# EAGLE library part AD9883 (library ad9883)
AD9883 - VGA to LCD ccontroller
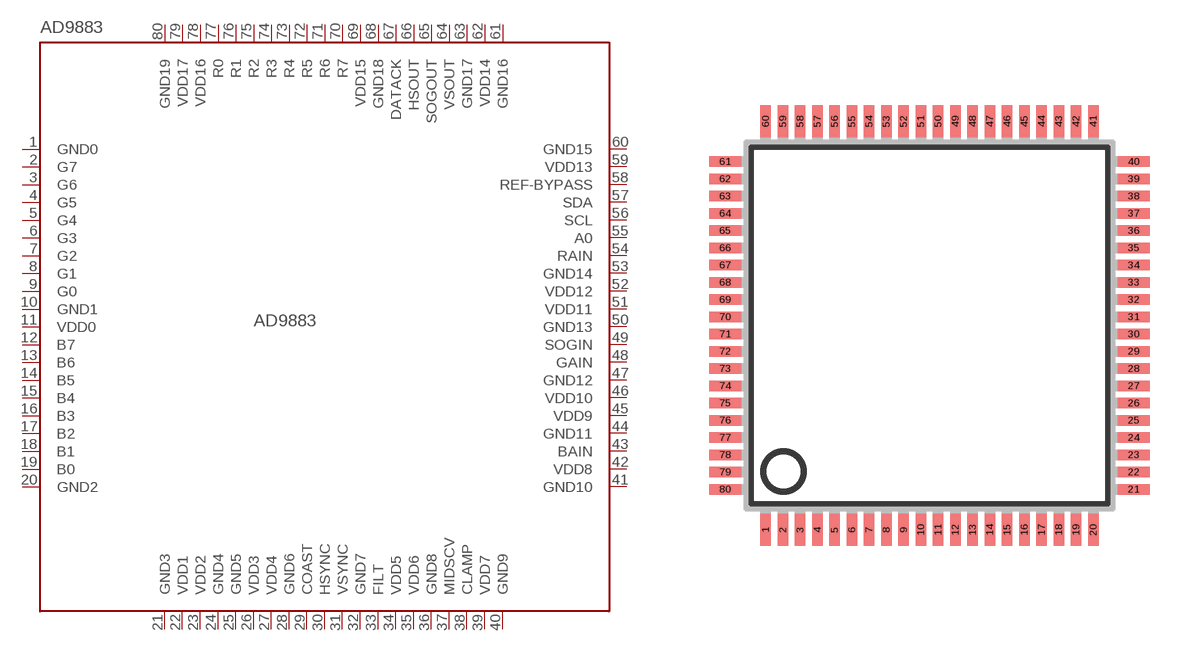
[diagram p0: symbol with the pads of LQFP80; footprint LQFP80]

Designator prefix IC

## AD9883  [LQFP80]
1  GND0  pwr
2  G7  out
3  G6  out
4  G5  out
5  G4  out
6  G3  out
7  G2  out
8  G1  out
9  G0  out
10  GND1  pwr
11  VDD0  pwr
12  B7  out
13  B6  out
14  B5  out
15  B4  out
16  B3  out
17  B2  out
18  B1  out
19  B0  out
20  GND2  pwr
21  GND3  pwr
22  VDD1  pwr
23  VDD2  pwr
24  GND4  pwr
25  GND5  pwr
26  VDD3  pwr
27  VDD4  pwr
28  GND6  pwr
29  COAST  in
30  HSYNC  in
31  VSYNC  in
32  GND7  pwr
33  FILT
34  VDD5  pwr
35  VDD6  pwr
36  GND8  pwr
37  MIDSCV
38  CLAMP  in
39  VDD7  pwr
40  GND9  pwr
41  GND10  pwr
42  VDD8  pwr
43  BAIN  in
44  GND11  pwr
45  VDD9  pwr
46  VDD10  pwr
47  GND12  pwr
48  GAIN  in
49  SOGIN  in
50  GND13  pwr
51  VDD11  pwr
52  VDD12  pwr
53  GND14  pwr
54  RAIN  in
55  A0  in
56  SCL  in
57  SDA
58  REF-BYPASS  in
59  VDD13  pwr
60  GND15  pwr
61  GND16  pwr
62  VDD14  pwr
63  GND17  pwr
64  VSOUT  out
65  SOGOUT  out
66  HSOUT  out
67  DATACK  out
68  GND18  pwr
69  VDD15  pwr
70  R7  out
71  R6  out
72  R5  out
73  R4  out
74  R3  out
75  R2  out
76  R1  out
77  R0  out
78  VDD16  pwr
79  VDD17  pwr
80  GND19  pwr

## Footprint LQFP80 (pad centres in mm)
80 Lead LQFP_ED (SQ-80) (ST-80) Source: www.analog.com .. AD9852_b.pdf
smd 0.4 x 1.2: 1 -6.175,-7.7; 2 -5.525,-7.7; 3 -4.875,-7.7; 4 -4.225,-7.7; 5 -3.575,-7.7; 6 -2.925,-7.7; 7 -2.275,-7.7; 8 -1.625,-7.7; 9 -0.975,-7.7; 10 -0.325,-7.7; 11 0.325,-7.7; 12 0.975,-7.7; 13 1.625,-7.7; 14 2.275,-7.7; 15 2.925,-7.7; 16 3.575,-7.7; 17 4.225,-7.7; 18 4.875,-7.7; 19 5.525,-7.7; 20 6.175,-7.7; 41 6.175,7.7; 42 5.525,7.7; 43 4.875,7.7; 44 4.225,7.7; 45 3.575,7.7; 46 2.925,7.7; 47 2.275,7.7; 48 1.625,7.7; 49 0.975,7.7; 50 0.325,7.7; 51 -0.325,7.7; 52 -0.975,7.7; 53 -1.625,7.7; 54 -2.275,7.7; 55 -2.925,7.7; 56 -3.575,7.7; 57 -4.225,7.7; 58 -4.875,7.7; 59 -5.525,7.7; 60 -6.175,7.7
smd 1.2 x 0.4: 21 7.7,-6.175; 22 7.7,-5.525; 23 7.7,-4.875; 24 7.7,-4.225; 25 7.7,-3.575; 26 7.7,-2.925; 27 7.7,-2.275; 28 7.7,-1.625; 29 7.7,-0.975; 30 7.7,-0.325; 31 7.7,0.325; 32 7.7,0.975; 33 7.7,1.625; 34 7.7,2.275; 35 7.7,2.925; 36 7.7,3.575; 37 7.7,4.225; 38 7.7,4.875; 39 7.7,5.525; 40 7.7,6.175; 61 -7.7,6.175; 62 -7.7,5.525; 63 -7.7,4.875; 64 -7.7,4.225; 65 -7.7,3.575; 66 -7.7,2.925; 67 -7.7,2.275; 68 -7.7,1.625; 69 -7.7,0.975; 70 -7.7,0.325; 71 -7.7,-0.325; 72 -7.7,-0.975; 73 -7.7,-1.625; 74 -7.7,-2.275; 75 -7.7,-2.925; 76 -7.7,-3.575; 77 -7.7,-4.225; 78 -7.7,-4.875; 79 -7.7,-5.525; 80 -7.7,-6.175